# EAGLE library part FX8C-80P (library JLB6_Connec)
Hirose FX8C-80P (Femelle, H variable carte base)
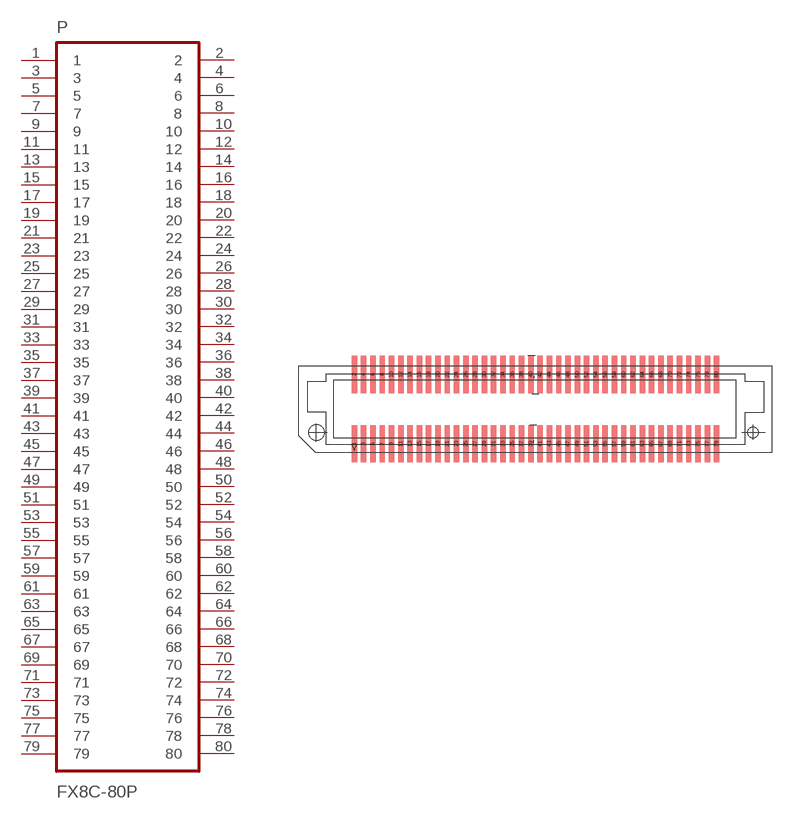
[diagram p15: symbol with the pads of FX8C-80P; footprint FX8C-80P]

Designator prefix P

## FX8C-80P  [FX8C-80P]
1  1
2  2
3  3
4  4
5  5
6  6
7  7
8  8
9  9
10  10
11  11
12  12
13  13
14  14
15  15
16  16
17  17
18  18
19  19
20  20
21  21
22  22
23  23
24  24
25  25
26  26
27  27
28  28
29  29
30  30
31  31
32  32
33  33
34  34
35  35
36  36
37  37
38  38
39  39
40  40
41  41
42  42
43  43
44  44
45  45
46  46
47  47
48  48
49  49
50  50
51  51
52  52
53  53
54  54
55  55
56  56
57  57
58  58
59  59
60  60
61  61
62  62
63  63
64  64
65  65
66  66
67  67
68  68
69  69
70  70
71  71
72  72
73  73
74  74
75  75
76  76
77  77
78  78
79  79
80  80

## Footprint FX8C-80P (pad centres in mm)
smd 0.35 x 2.4: 1 -11.7,-2.238; 2 -11.7,2.238; 3 -11.1,-2.238; 4 -11.1,2.238; 5 -10.5,-2.238; 6 -10.5,2.238; 7 -9.9,-2.238; 8 -9.9,2.238; 9 -9.3,-2.238; 10 -9.3,2.238; 11 -8.7,-2.238; 12 -8.7,2.238; 13 -8.1,-2.238; 14 -8.1,2.238; 15 -7.5,-2.238; 16 -7.5,2.238; 17 -6.9,-2.238; 18 -6.9,2.238; 19 -6.3,-2.238; 20 -6.3,2.238; 21 -5.7,-2.238; 22 -5.7,2.238; 23 -5.1,-2.238; 24 -5.1,2.238; 25 -4.5,-2.238; 26 -4.5,2.238; 27 -3.9,-2.238; 28 -3.9,2.238; 29 -3.3,-2.238; 30 -3.3,2.238; 31 -2.7,-2.238; 32 -2.7,2.238; 33 -2.1,-2.238; 34 -2.1,2.238; 35 -1.5,-2.238; 36 -1.5,2.238; 37 -0.9,-2.238; 38 -0.9,2.238; 39 -0.3,-2.238; 40 -0.3,2.238; 41 0.3,-2.238; 42 0.3,2.238; 43 0.9,-2.238; 44 0.9,2.238; 45 1.5,-2.238; 46 1.5,2.238; 47 2.1,-2.238; 48 2.1,2.238; 49 2.7,-2.238; 50 2.7,2.238; 51 3.3,-2.238; 52 3.3,2.238; 53 3.9,-2.238; 54 3.9,2.238; 55 4.5,-2.238; 56 4.5,2.238; 57 5.1,-2.238; 58 5.1,2.238; 59 5.7,-2.238; 60 5.7,2.238; 61 6.3,-2.238; 62 6.3,2.238; 63 6.9,-2.238; 64 6.9,2.238; 65 7.5,-2.238; 66 7.5,2.238; 67 8.1,-2.238; 68 8.1,2.238; 69 8.7,-2.238; 70 8.7,2.238; 71 9.3,-2.238; 72 9.3,2.238; 73 9.9,-2.238; 74 9.9,2.238; 75 10.5,-2.238; 76 10.5,2.238; 77 11.1,-2.238; 78 11.1,2.238; 79 11.7,-2.238; 80 11.7,2.238
hole 0.991 at -14.147,-1.499
hole 0.686 at 14.047,-1.499